# Altium schematic symbol library TSW-104-13-G-S.SchLib: 1 symbol
Pins are listed as number, name and electrical type; pins without a type are passive.

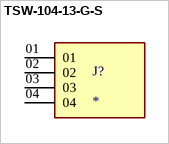
[diagram p0: symbol TSW-104-13-G-S]

## TSW-104-13-G-S
designator J?
MP: TSW-104-13-G-S; Package: None; Price: None; Value: *; Availability: Unavailable
footprint SAMTEC_TSW-104-13-G-S
pins: 01, 02, 03, 04